# Altium footprint library PCB - CONNECTOR - SAMTEC TSW-101-XX-YY-S.PcbLib: 1 footprints
Each footprint in its own frame and in the unit in brackets; x right, y up, seen from the top. Pads: shape width x height; smd on the part's side, far side on the other; paste and mask are expansions set on the pad; w line width, h text height; cw(c..) or ccw(c..) is an arc to the next point about the centre after c.
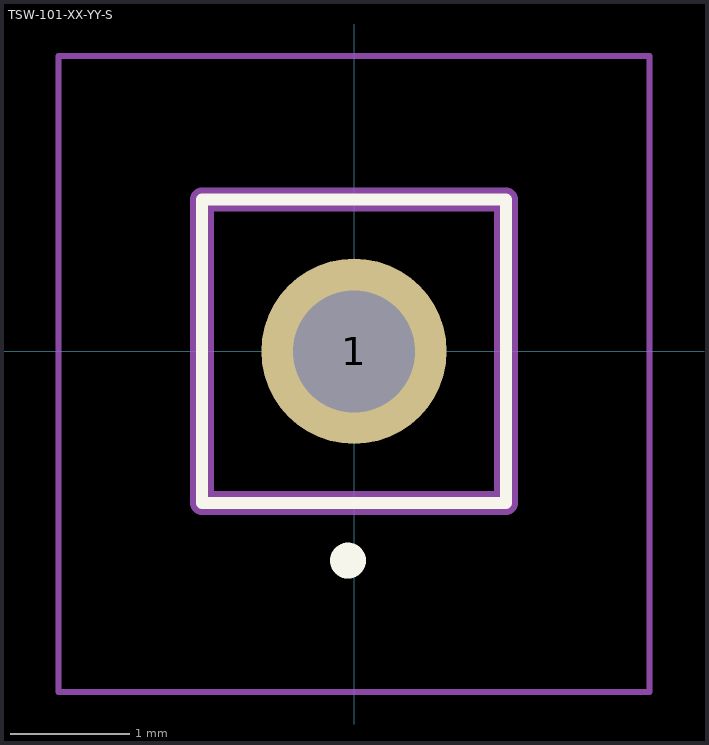
[diagram p0: the footprint, top view; thin cyan lines are the x and y axes]

## TSW-101-XX-YY-S [mm]
pads (1):
  round 1.55 hole 1.02: 1(0,0)
Top Overlay:
  circle w0.2: c-0.05,-1.75 r0.05
  lines w0.1: -1.27,-1.27 1.27,-1.27 1.27,1.27 -1.27,1.27 -1.27,-1.27
Top Value (Mech13):
  lines w0.2: -1.27,-1.27 1.27,-1.27 1.27,1.27 -1.27,1.27 -1.27,-1.27
Mechanical 15:
  lines w0.05: -2.47,-2.85 2.47,-2.85 2.47,2.47 -2.47,2.47 -2.47,-2.85
3D body "TSW-101-07-G-S.stp": height 10.92, standoff 0, extent -1.27,-1.46 1.27,1.08